# Altium footprint library R-DNP.PcbLib: 4 footprints
Each footprint in its own frame and in the unit in brackets; x right, y up, seen from the top. Pads: shape width x height; smd on the part's side, far side on the other; paste and mask are expansions set on the pad; w line width, h text height; cw(c..) or ccw(c..) is an arc to the next point about the centre after c.
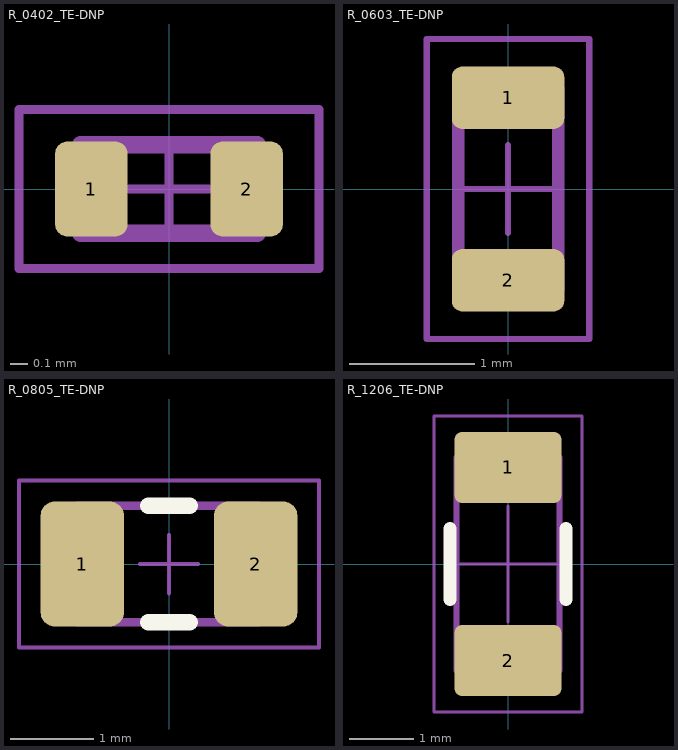
[diagram p0: the footprints below, top view; thin cyan lines are the x and y axes]

## R_0402_TE-DNP [mm] "Vishay D0402 1 x 0.5mm (+/- 0.05), 0.2mm +/-0.1mm Kontakte"
height 0.35
pads (2):
  rrect33% 0.41x0.54 smd: 1(-0.44,0) 2(0.44,0)
Top Assembly:
  lines w0.1: -0.3,-0.25 -0.3,0.25 ; 0.3,-0.25 0.3,0.25 ; -0.5,-0.25 0.5,-0.25 0.5,0.25 -0.5,0.25 -0.5,-0.25
Top Courtyard:
  lines w0.05: -0.85,-0.45 0.85,-0.45 0.85,0.45 -0.85,0.45 -0.85,-0.45
Top Designator:
  text ".Designator" at 0.8,-0.3 h0.7
Top Component Center:
  lines w0.05: -0.225,0 0.225,0 ; 0,-0.225 0,0.225

## R_0603_TE-DNP [mm] "Vishay D0603 1.55 x 0.85 (+0.1/-0.05) 0.3 +/- 0,2mm Kontakte"
height 0.5
pads (2):
  rrect33% 0.9x0.5 smd: 1(0,0.73) 2(0,-0.73)
Top Assembly:
  lines w0.1: -0.4,-0.55 0.4,-0.55 ; -0.4,0.55 0.4,0.55 ; -0.4,-0.8 0.4,-0.8 0.4,0.8 -0.4,0.8 -0.4,-0.8
Top Courtyard:
  lines w0.05: -0.65,-1.2 -0.65,1.2 0.65,1.2 0.65,-1.2 -0.65,-1.2
Top Designator:
  text ".Designator" at 0.35,1 h0.7
Top Component Center:
  lines w0.05: -0.35,0 0.35,0 ; 0,-0.35 0,0.35

## R_0805_TE-DNP [mm]
height 0.85
pads (2):
  rrect33% 1x1.5 smd: 1(-1.04,0) 2(1.04,0)
Top Overlay:
  lines w0.2: -0.25,-0.7 0.25,-0.7 ; -0.25,0.7 0.25,0.7
Top Assembly:
  lines w0.1: -0.6,-0.7 -0.6,0.7 ; 0.6,-0.7 0.6,0.7 ; -1.1,-0.7 1.075,-0.7 1.075,0.7 -1.1,0.7 -1.1,-0.7
Top Courtyard:
  lines w0.05: -1.8,-1 1.8,-1 1.8,1 -1.8,1 -1.8,-1
Top Designator:
  text ".Designator" at -0.5,1.1 h0.7
Top Component Center:
  lines w0.05: -0.35,0 0.35,0 ; 0,-0.35 0,0.35

## R_1206_TE-DNP [mm] "Vishay D1206 3.2 x 1.6 (+/- 0.15), 0.2mm - 0.6mm Kontakte"
height 0.65
pads (2):
  rrect20% 1.66x1.1 smd: 1(0,1.5) 2(0,-1.5)
Top Overlay:
  lines w0.2: -0.9,-0.55 -0.9,0.55 ; 0.9,-0.55 0.9,0.55
Top Assembly:
  lines w0.1: -0.8,-1.1 0.8,-1.1 ; -0.8,1.1 0.8,1.1 ; -0.8,-1.65 -0.8,1.65 0.8,1.65 0.8,-1.65 -0.8,-1.65
Top Courtyard:
  lines w0.05: -1.15,-2.3 1.15,-2.3 1.15,2.3 -1.15,2.3 -1.15,0 -1.15,-2.3
Top Designator:
  text ".Designator" at 0.3,1.95 h0.7
Top Component Center:
  lines w0.05: -0.9,0 0,0 ; 0,-0.9 0,0 ; 0,0.9 0,0 ; 0.9,0 0,0